# Altium schematic symbol library main.SchLib: 296 symbols (part 1 of 5)
Pins are listed as number, name and electrical type; pins without a type are passive.

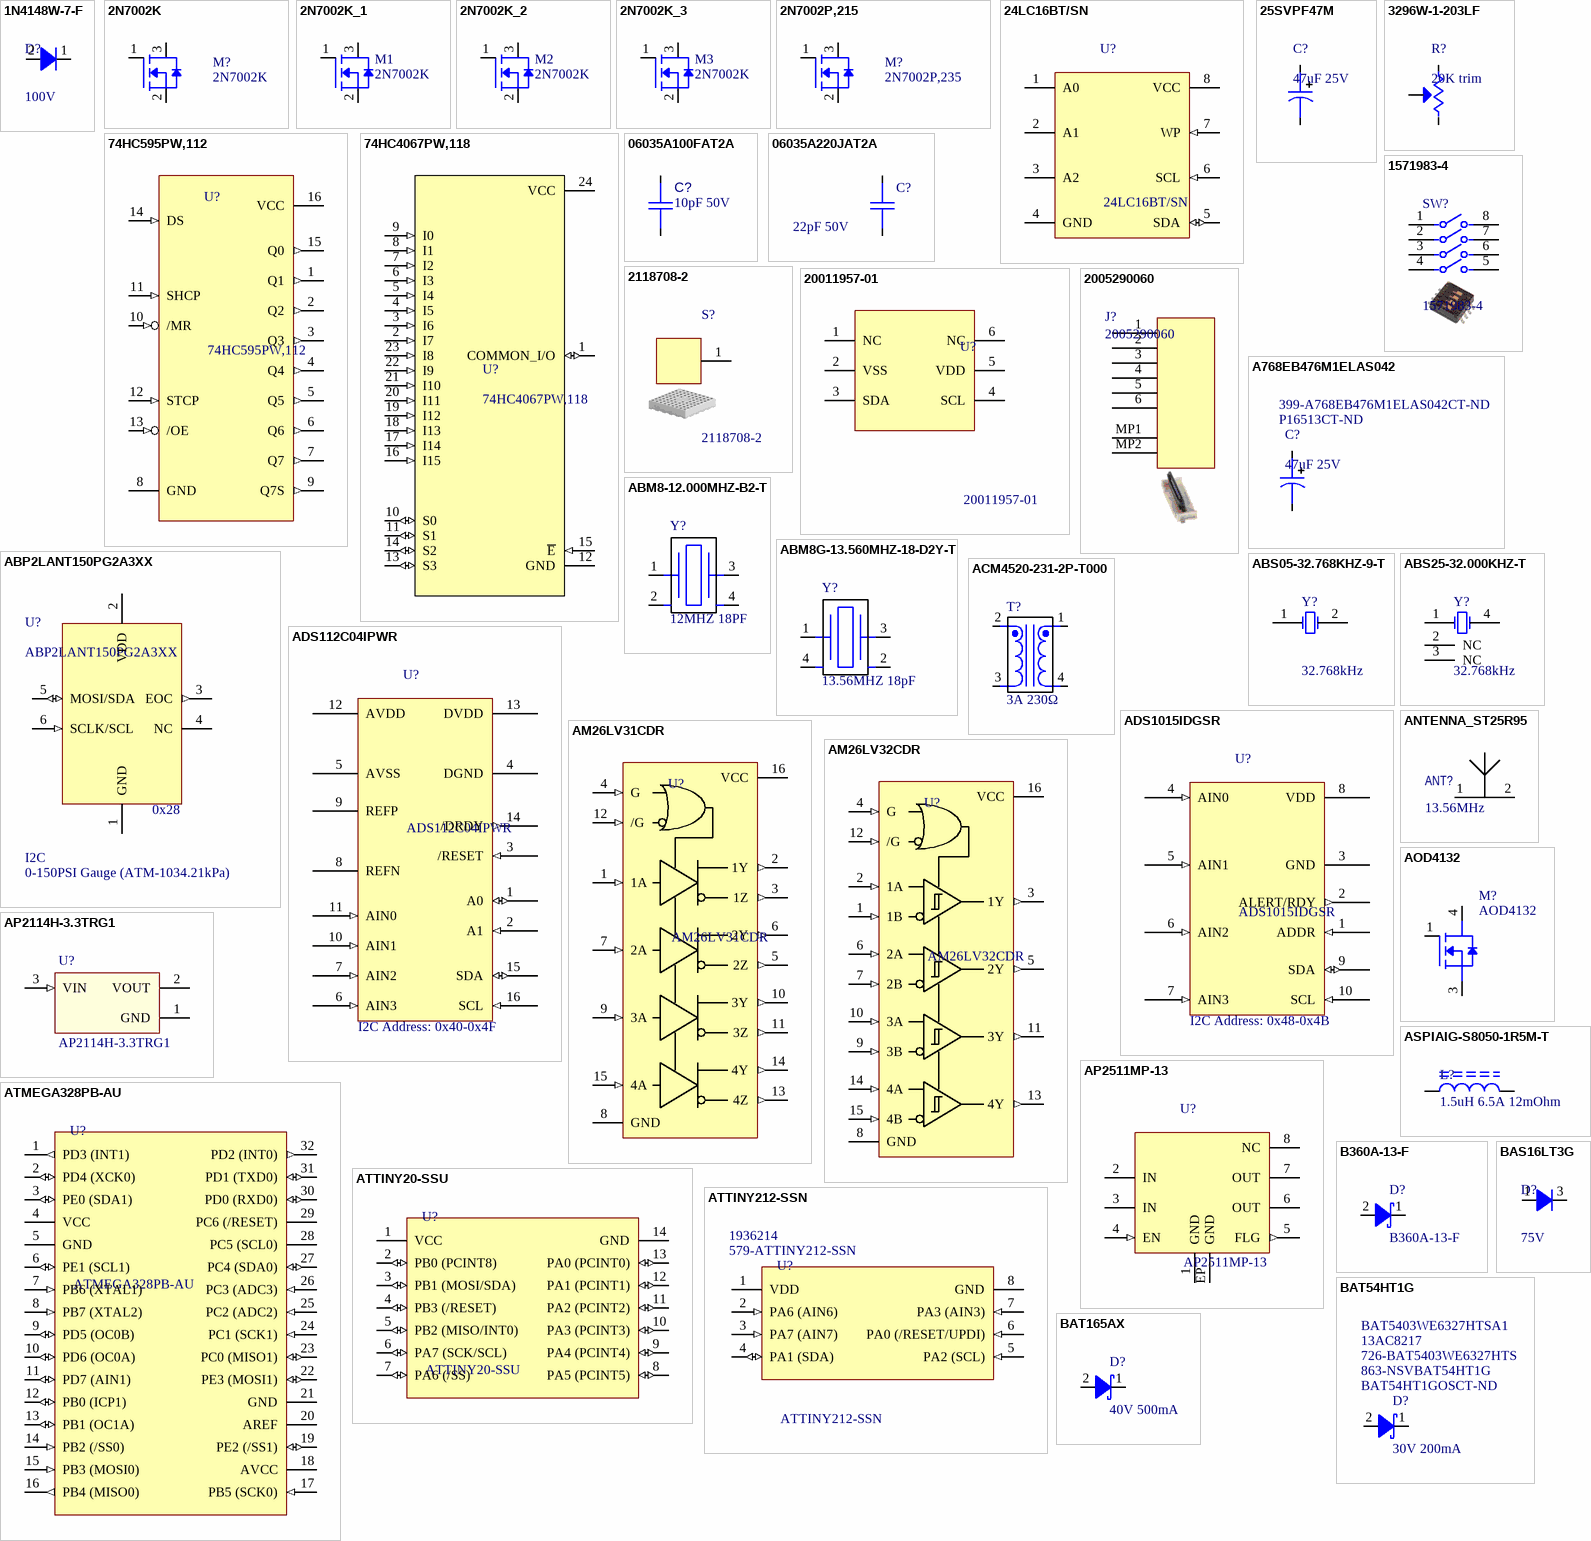
[diagram p0: symbols 1N4148W-7-F to BAT165AX]

## 1N4148W-7-F
designator D?, comment 100V
DIODE 100V 300mA SOD123; Manufacturer: Diodes Incorporated; Manufacturer Part Number: 1N4148W-7-F; Diode Type: Standard; Current - Average Rectified (Io): 300mA (DC); Voltage - Forward (Vf) (Max) @ If: 1.25V @ 150mA; Current - Reverse Leakage @ Vr: 1µA @ 75V; Supplier 1: Digi-Key; Category: Discrete Semiconductor Products; Stock 1: 3190032; Pricing 1: 1=0.18, 10=0.164, 100=0.0891, 500=0.05484, 1000=0.03739 (USD); Mounting Type: Surface Mount; Operating Temperature - Junction: -65°C ~ 150°C; ComponentLink1URL: https://www.diodes.com/assets/Datasheets/ds30086.pdf; ComponentLink1Description: https://www.diodes.com/assets/Datasheets/ds30086.pdf; Supplier Part Number 1: 1N4148W-FDICT-ND
footprint TSSOP50P370X135-2N (Footprint not found)
pins: 1 K, 2 A

## 2N7002K
designator M?
MOSFET SOT-23 N Channel 60V; Manufacturer: NextGen Components; FET Type: N-Channel; Current - Continuous Drain (Id) @ 25°C: 500mA (Ta); Drive Voltage (Max Rds On, Min Rds On): 4.5V, 10V; Rds On (Max) @ Id, Vgs: 900mOhm @ 300mA, 10V; Vgs(th) (Max) @ Id: 2.5V @ 250µA; Gate Charge (Qg) (Max) @ Vgs: 0.31 nC @ 10 V; Vgs (Max): ±20V; Input Capacitance (Ciss) (Max) @ Vds: 23.8 pF @ 10 V; Power Dissipation (Max): 500mW (Ta); Manufacturer Part Number: 2N7002K; ComponentLink1URL: https://assets.nexperia.com/documents/data-sheet/2N7002P.pdf?src-supplier=Digi-Key; ComponentLink1Description: https://assets.nexperia.com/documents/data-sheet/2N7002P.pdf?src-supplier=Digi-Key; Drain to Source Voltage (Vdss): 60V; Operating Temperature: -55°C ~ 150°C; Supplier 1: RSComponents; Supplier Part Number 1: 8051126P; Supplier 2: Arrow Electronics; Supplier Part Number 2: 2N7002K
footprint SOT23 TI# SOT-23 3L (SOT23, 3-Leads, Body 2.92x2.40mm, Pitch 0.95mm, IPC Medium Density)
pins: 1 G, 2 S1, 3 S2

## 2N7002K_1
designator M1, comment 2N7002K
MOSFET SOT-23 N Channel 60V; Manufacturer: NextGen Components; FET Type: N-Channel; Current - Continuous Drain (Id) @ 25°C: 500mA (Ta); Drive Voltage (Max Rds On, Min Rds On): 4.5V, 10V; Rds On (Max) @ Id, Vgs: 900mOhm @ 300mA, 10V; Vgs(th) (Max) @ Id: 2.5V @ 250µA; Gate Charge (Qg) (Max) @ Vgs: 0.31 nC @ 10 V; Vgs (Max): ±20V; Input Capacitance (Ciss) (Max) @ Vds: 23.8 pF @ 10 V; Power Dissipation (Max): 500mW (Ta); Manufacturer Part Number: 2N7002K; ComponentLink1URL: https://assets.nexperia.com/documents/data-sheet/2N7002P.pdf?src-supplier=Digi-Key; ComponentLink1Description: https://assets.nexperia.com/documents/data-sheet/2N7002P.pdf?src-supplier=Digi-Key; Drain to Source Voltage (Vdss): 60V; Operating Temperature: -55°C ~ 150°C; Supplier 1: RSComponents; Supplier Part Number 1: 8051126P; Supplier 2: Arrow Electronics; Supplier Part Number 2: 2N7002K
footprint SOT23 TI# SOT-23 3L (SOT23, 3-Leads, Body 2.92x2.40mm, Pitch 0.95mm, IPC Medium Density)
pins: 1 G, 2 S1, 3 S2

## 2N7002K_2
designator M2, comment 2N7002K
MOSFET SOT-23 N Channel 60V; Manufacturer: NextGen Components; FET Type: N-Channel; Current - Continuous Drain (Id) @ 25°C: 500mA (Ta); Drive Voltage (Max Rds On, Min Rds On): 4.5V, 10V; Rds On (Max) @ Id, Vgs: 900mOhm @ 300mA, 10V; Vgs(th) (Max) @ Id: 2.5V @ 250µA; Gate Charge (Qg) (Max) @ Vgs: 0.31 nC @ 10 V; Vgs (Max): ±20V; Input Capacitance (Ciss) (Max) @ Vds: 23.8 pF @ 10 V; Power Dissipation (Max): 500mW (Ta); Manufacturer Part Number: 2N7002K; ComponentLink1URL: https://assets.nexperia.com/documents/data-sheet/2N7002P.pdf?src-supplier=Digi-Key; ComponentLink1Description: https://assets.nexperia.com/documents/data-sheet/2N7002P.pdf?src-supplier=Digi-Key; Drain to Source Voltage (Vdss): 60V; Operating Temperature: -55°C ~ 150°C; Supplier 1: RSComponents; Supplier Part Number 1: 8051126P; Supplier 2: Arrow Electronics; Supplier Part Number 2: 2N7002K
footprint SOT23 TI# SOT-23 3L (SOT23, 3-Leads, Body 2.92x2.40mm, Pitch 0.95mm, IPC Medium Density)
pins: 1 G, 2 S1, 3 S2

## 2N7002K_3
designator M3, comment 2N7002K
MOSFET SOT-23 N Channel 60V; Manufacturer: NextGen Components; FET Type: N-Channel; Current - Continuous Drain (Id) @ 25°C: 500mA (Ta); Drive Voltage (Max Rds On, Min Rds On): 4.5V, 10V; Rds On (Max) @ Id, Vgs: 900mOhm @ 300mA, 10V; Vgs(th) (Max) @ Id: 2.5V @ 250µA; Gate Charge (Qg) (Max) @ Vgs: 0.31 nC @ 10 V; Vgs (Max): ±20V; Input Capacitance (Ciss) (Max) @ Vds: 23.8 pF @ 10 V; Power Dissipation (Max): 500mW (Ta); Manufacturer Part Number: 2N7002K; ComponentLink1URL: https://assets.nexperia.com/documents/data-sheet/2N7002P.pdf?src-supplier=Digi-Key; ComponentLink1Description: https://assets.nexperia.com/documents/data-sheet/2N7002P.pdf?src-supplier=Digi-Key; Drain to Source Voltage (Vdss): 60V; Operating Temperature: -55°C ~ 150°C; Supplier 1: RSComponents; Supplier Part Number 1: 8051126P; Supplier 2: Arrow Electronics; Supplier Part Number 2: 2N7002K
footprint SOT23 TI# SOT-23 3L (SOT23, 3-Leads, Body 2.92x2.40mm, Pitch 0.95mm, IPC Medium Density)
pins: 1 G, 2 S1, 3 S2

## 2N7002P,215
designator M?, comment 2N7002P,235
MOSFET N-CH 60V 0.36A SOT-23; Manufacturer: Nexperia; Manufacturer Part Number: 2N7002P,235; Pricing 1: 1=0.17000, 10=0.15100, 25=0.14360, 100=0.06330, 250=0.06072, 500=0.04968, 1000=0.03450, 2500=0.03013, 5000=0.02703 (USD); ComponentLink1URL: https://assets.nexperia.com/documents/data-sheet/2N7002P.pdf?src-supplier=Digi-Key; ComponentLink1Description: https://assets.nexperia.com/documents/data-sheet/2N7002P.pdf?src-supplier=Digi-Key; Stock 1: 133,531; Supplier 1: Digi-Key; Supplier Part Number 1: 1727-1865-1-ND; Supplier 2: Avnet; Supplier Part Number 2: 2N7002P,235; Supplier 3: Future Electronics; Supplier Part Number 3: 4044867
footprint SOT23 TI# SOT-23 3L (SOT23, 3-Leads, Body 2.92x2.40mm, Pitch 0.95mm, IPC Medium Density)
pins: 1 G, 2 S1, 3 S2

## 24LC16BT/SN
designator U?
IC EEPROM 16KBIT I2C 8SOIC; Manufacturer: Microchip; Manufacturer Part Number: M24C16-WMN6TP; Supply Voltage: 2.5V ~ 5.5V; Memory Size: 16Kb (2K x 8); Type: EEPROM; Data Interface: I2C; ComponentLink1Description: Link; ComponentLink1URL: https://www.digikey.com/en/products/detail/maxim-integrated/MAX11613EUA-T/2062201; Supplier 1: Digi-Key; Supplier Part Number 1: 24LC16BT/SNCT-ND; Supplier 2: Mouser; Supplier Part Number 2: 579-24LC16BT/SN
footprint SOIC-8 3.9mm Width
pins: 1 A0, 2 A1, 3 A2, 4 GND, 5 SDA (io), 6 SCL (in), 7 WP (in), 8 VCC (power)

## 25SVPF47M
designator C?, comment 47uF 25V
CAP ALUM POLY 47UF 20% 25V SMD; Manufacturer: Panasonic; Manufacturer Part Number: 25SVPF47M; Leakage Current: 235uA; Dissipation Factor: 12%; ESR (Equivalent Series Resistance): 30mR; Supplier 1: Digi-Key; Category: Aluminum Electrolytic Capacitors; Stock 1: 7000; Pricing 1: 1=1.29000, 10=1.02200, 100=0.76620, 500=0.57888 (USD); Case/Package: Radial; Min Operating Temperature: -55°C; Max Operating Temperature: 105°C; Voltage: 25V; Capacitance: 47uF; Tolerance: 20%; Voltage Rating: 25V; Diameter: 6.3mm; Height: 5.9mm; ComponentLink1URL: https://datasheet.ciiva.com/22746/1734360-22746218.pdf?src-supplier=Element14; ComponentLink1Description: https://datasheet.ciiva.com/22746/1734360-22746218.pdf?src-supplier=Element14; Supplier Part Number 1: P16513CT-ND
footprint CAPAE6666X60N (Aluminum Electrolytic Capacitor, Body 7.30x6.60x6.00mm, IPC Medium Density)
pins: 1, 2

## 74HC595PW,112
designator U?
IC 8BIT SHIFT REGISTER 16TSSOP; Manufacturer: NXP; Supply Voltage: 2V ~ 6V; Output Type: Tri-State; Function: Serial to Parallel; ComponentLink1Description: Link; ComponentLink1URL: https://www.digikey.com/en/products/detail/maxim-integrated/MAX11613EUA-T/2062201; Manufacturer Part Number: 74HC595PW,112; Logic Type: Shift Register; Supplier 1: Digi-Key; Supplier Part Number 1: 1727-6439-ND; Supplier 2: Future Electronics; Supplier Part Number 2: 4452017; Supplier 3: Mouser; Supplier Part Number 3: 771-74HC595PW-T
footprint TSSOP-16, 4.4mm body width, pitch 0.65mm (TSOP, 16-Leads, Body 4.40mm width, Pitch 0.65mm)
pins: 1 Q1 (out), 2 Q2 (out), 3 Q3 (out), 4 Q4 (out), 5 Q5 (out), 6 Q6 (out), 7 Q7 (out), 8 GND (power), 9 Q7S (out), 10 /MR (in), 11 SHCP (in), 12 STCP (in), 13 /OE (in), 14 DS (in), 15 Q0 (out), 16 VCC (power)

## 74HC4067PW,118
designator U?
IC MUX/DEMUX 1X16 24TSSOP; Manufacturer: Nexperia; Manufacturer Part Number: 74HC4067PW,118; Supplier 1: Digi-Key; Supplier Part Number 1: 1727-2042-6-ND
footprint TSSOP24 (24 leads;  body width 4.4 mm)
pins: 1 COMMON_I/O (io), 2 I7 (in), 3 I6 (in), 4 I5 (in), 5 I4 (in), 6 I3 (in), 7 I2 (in), 8 I1 (in), 9 I0 (in), 10 S0 (io), 11 S1 (io), 12 GND (power), 13 S3 (io), 14 S2 (io), 15 ~{E} (in), 16 I15 (in), 17 I14 (in), 18 I13 (in), 19 I12 (in), 20 I11 (in), 21 I10 (in), 22 I9 (in), 23 I8 (in), 24 VCC (power)

## 3296W-1-203LF
designator R?, comment 20K trim
RES TRIM 20K 1/2W TH; Manufacturer: Bourns; Manufacturer Part Number: 3296W-1-203LF; Tolerance: 10%; Resistance: 20kR; Power Rating: 500mW; Number of Turns: 25; Temperature Coefficient: 100ppm/°C; Supplier 1: Digi-Key; Category: Variable Resistors and Potentiometers; Stock 1: 3520; Pricing 1: 1=2.41000, 10=2.11700, 25=1.89800, 50=1.82500, 100=1.75200, 250=1.67900, 500=1.38700, 1000=1.31400, 5000=1.09500 (USD); Min Operating Temperature: -55°C; Max Operating Temperature: 125°C; Max Power Dissipation: 500mW; Height: 0.395inch; ComponentLink1URL: https://datasheet.ciiva.com/11832/0900766b8069ccf4-11832240.pdf?src-supplier=RSComponents; ComponentLink1Description: https://datasheet.ciiva.com/11832/0900766b8069ccf4-11832240.pdf?src-supplier=RSComponents; Supplier Part Number 1: 3296W-203LF-ND
footprint TRIM_3296W-1-254LF
pins: 1 CCW, 2 WIPER, 3 CW

## 06035A100FAT2A
designator C?, comment 10pF 50V
CAP CER 10PF 50V C0G/NP0 0603; Manufacturer: AVX; Manufacturer Part Number: 06035A100FAT2A; Tolerance: 1%; Temperature Coefficient: C0G; Supplier 1: Digi-Key; Category: Ceramic Capacitors; Stock 1: 366,260; Case/Package: 0603; Min Operating Temperature: -55°C; Max Operating Temperature: 125°C; Capacitance: 10pF; Voltage Rating (DC): 50V; Voltage Rating: 50V; Supplier Part Number 1: 478-10285-1-ND
footprint CAPC1608X09N (Chip Capacitor, 2-Leads, Body 1.60x0.80mm, IPC Medium Density)
pins: 1, 2

## 06035A220JAT2A
designator C?, comment 22pF 50V
CAP CER 22PF 50V C0G/NP0 0603; Manufacturer: AVX; Manufacturer Part Number: 06035A220JAT2A; Tolerance: 5%; Temperature Coefficient: C0G; Category: Ceramic Capacitors; Stock 1: 802526; Case/Package: 0603; Min Operating Temperature: -55°C; Max Operating Temperature: 125°C; Capacitance: 22pF; Voltage Rating: 50V; Load: *; Supplier 1: Digi-Key; Supplier Part Number 1: 478-1167-1-ND
footprint CAPC1608X09N (Chip Capacitor, 2-Leads, Body 1.60x0.80mm, IPC Medium Density)
pins: 1, 2

## 1571983-4
designator SW?
SWITCH DIP 4-pos SPST 24V 0.1" SMT; Manufacturer: TE Connectivity; Number of Positions: 4; Voltage Rating (DC): 50V; Max Current Rating: 25mA; Switching Capacity: 400mW; Pitch: 1.27mm; Washable: Yes; Supplier 1: Digi-Key; Manufacturer Part Number: 1571983-4; Category: DIP Switches; Stock 1: 7957; Pricing 1: 1=1.74000, 10=1.69000, 25=1.53720, 100=1.33550, 250=1.21024, 500=1.12680, 1000=1.04333, 2500=0.94595, 5000=0.87639 (USD); Min Operating Temperature: -30°C; Max Operating Temperature: 85°C; Throw Configuration: SPST; Max Voltage Rating (DC): 24V; Orientation: Straight; Type: Switch; Height: 7.31mm; Terminal Pitch: 1.27mm; ComponentLink1URL: https://datasheet.ciiva.com/25629/0900766b8107b515-25629567.pdf?src-supplier=RSComponents; ComponentLink1Description: https://datasheet.ciiva.com/25629/0900766b8107b515-25629567.pdf?src-supplier=RSComponents; Supplier Part Number 1: 450-1353-ND
footprint FP-1571983-4-MFG
pins: 1, 2, 3, 4, 5, 6, 7, 8

## 2118708-2
designator S?
RF SHIELD 1.032"X1.032" SMD 1PC; Manufacturer: Tyco; RF Shield: RF Shields; Manufacturer Part Number: 2118708-2; Supplier 1: Digi-Key; Supplier 2: Mouser; Supplier Part Number 1: A126142CT-ND; Supplier Part Number 2: 571-2118708-2
footprint 2118708-2
pins: 1

## 20011957-01
designator U?
TSYS03 TEMP SENSOR XDFN6 1.5X1.5; Manufacturer: TE Connectivity; Interface: I2C; Manufacturer Part Number: 20011957-01; Supplier 1: Digi-Key; Supplier Part Number 1: 223-20011957-01-ND
footprint 6-XDFN (6-XDFN (1.5 x 1.5))
pins: 1 NC, 2 VSS, 3 SDA, 4 SCL, 5 VDD, 6 NC

## 2005290060
designator J?
1.0 FPC ZIF BTM CONT EMBT PKG 6C; Manufacturer: Molex; Number of Positions: 6; Pitch: 1mm; Contacts: Bottom; Manufacturer Part Number: 2005290060; Category: Headers and Wire Housings; Number of Rows: 1; Supplier 1: Digi-Key; Supplier Part Number 1: WM20763CT-ND
footprint 2005290060
pins: 1, 2, 3, 4, 5, 6, MP1, MP2

## A768EB476M1ELAS042
designator C?, comment 47uF 25V  Supplier Part Number 1: P16513CT-ND  Supplier Part Number 2: 399-A768EB476M1ELAS042CT-ND
CAP ALUM POLY 47UF 20% 25V SMD; Manufacturer: Panasonic; Manufacturer Part Number: 25SVPF47M; Leakage Current: 235uA; Dissipation Factor: 12%; ESR (Equivalent Series Resistance): 30mR; Category: Aluminum Electrolytic Capacitors; Stock 1: 7000; Pricing 1: 1=1.29000, 10=1.02200, 100=0.76620, 500=0.57888 (USD); Case/Package: Radial; Min Operating Temperature: -55°C; Max Operating Temperature: 105°C; Voltage: 25V; Capacitance: 47uF; Tolerance: 20%; Voltage Rating: 25V; Diameter: 6.3mm; Height: 5.9mm; ComponentLink1URL: https://datasheet.ciiva.com/22746/1734360-22746218.pdf?src-supplier=Element14; ComponentLink1Description: https://datasheet.ciiva.com/22746/1734360-22746218.pdf?src-supplier=Element14; Supplier 1: Digi-Key; Supplier 2: Digi-Key
footprint CAPAE6666X60N (Aluminum Electrolytic Capacitor, Body 7.30x6.60x6.00mm, IPC Medium Density)
pins: 1, 2

## ABM8-12.000MHZ-B2-T
designator Y?, comment 12MHZ 18PF
CRYSTAL 12.0000MHZ 18PF SMD; Manufacturer: Abracon; Manufacturer Part Number: ABM8-12.000MHZ-B2-T; ESR: 120 Ohms; Frequency Stability: ±20ppm; Load Capacitance: 18pF; Operating Temperature: -20°C ~ 75°C; Frequency: 12MHz; Supplier 1: Newark; Supplier 2: Mouser; Supplier 3: Digi-Key; Supplier Part Number 1: 78AH9116; Supplier Part Number 2: 815-ABM8-12-B2-T; Supplier Part Number 3: 535-9826-1-ND
footprint 3.2mmx2.5mm Crystal
pins: 1, 2 NC, 3, 4 NC

## ABM8G-13.560MHZ-18-D2Y-T
designator Y?, comment 13.56MHZ 18pF
CRYSTAL 13.5600MHZ 18PF SMD; Manufacturer: Abracon; Manufacturer Part Number: ABM8G-13.560MHZ-18-D2Y-T; ESR: 80 Ohms; Frequency Stability: ±30ppm; Frequency Tolerance: ±20ppm; Load Capacitance: 18pF; Operating Temperature: -40°C ~ 85°C; Frequency: 13.56MHz; Supplier 1: Digi-Key; Supplier Part Number 1: 535-10264-1-ND
footprint 3.2mmx2.5mm Crystal
pins: 1, 2 NC, 3, 4 NC

## ABP2LANT150PG2A3XX
designator U?  Pressure Range: 0-150PSI Gauge (ATM-1034.21kPa)  Interface: I2C  Address: 0x28
ABP2, LEADLESS SMT PACKAGE, SING; Manufacturer: Honeywell; Max Pressure: 250PSI; Supply Voltage: 1.8~3.6V; Manufacturer Part Number: ABP2LANT150PG2A3XX; Supplier 1: Newark; Supplier Part Number 1: 76AH8157; Supplier 2: DigiKey; Supplier Part Number 2: 480-ABP2LANT150PG2A3XX-ND; Supplier 3: Mouser; Supplier Part Number 3: 785-P2LANT150PG2A3XX; Supplier 4: Arrow Electronics; Supplier Part Number 4: ABP2LANT150PG2A3XX; Supplier 5: Newark; Supplier Part Number 5: 76AH8157; Supplier 6: DigiKey; Supplier Part Number 6: 480-ABP2LANT150PG2A3XX-ND; Supplier 7: Mouser; Supplier Part Number 7: 785-P2LANT150PG2A3XX; Supplier 8: Arrow Electronics; Supplier Part Number 8: ABP2LANT150PG2A3XX; Supplier 9: Newark; Supplier Part Number 9: 76AH8157; Supplier 10: DigiKey; Supplier Part Number 10: 480-ABP2LANT150PG2A3XX-ND; Supplier 11: Mouser; Supplier Part Number 11: 785-P2LANT150PG2A3XX; Supplier 12: Arrow Electronics; Supplier Part Number 12: ABP2LANT150PG2A3XX; Supplier 13: Newark; Supplier Part Number 13: 76AH8157; Supplier 14: DigiKey; Supplier Part Number 14: 480-ABP2LANT150PG2A3XX-ND; Supplier 15: Mouser; Supplier Part Number 15: 785-P2LANT150PG2A3XX; Supplier 16: Arrow Electronics; Supplier Part Number 16: ABP2LANT150PG2A3XX
footprint ABP2LANT150PG2A3XX
pins: 1 GND, 2 VDD, 3 EOC (out), 4 NC, 5 MOSI/SDA (io), 6 SCLK/SCL (in)

## ABS05-32.768KHZ-9-T
designator Y?, comment 32.768kHz
CRYSTAL 32.7680KHZ 9PF SMD; Manufacturer: Abracon Corporation; Manufacturer Part Number: ABS05-32.768KHZ-9-T; Frequency Tolerance: ±20ppm; Load Capacitance: 12.5pF; ESR (Equivalent Series Resistance): 50 kOhm; Operating Mode: Fundamental; Open Source: Yes; Category: Crystals and Oscillators; Stock 1: 94605; Pricing 1: 1=0.71, 10=0.624, 50=0.54, 100=0.432, 500=0.36 (USD); Type: kHz Crystal (Tuning Fork); Frequency: 32.768kHz; Frequency Stability: -; Operating Temperature: -40°C ~ 85°C; Mounting Type: Surface Mount; Height: 0.098" (2.50mm); ComponentLink1URL: http://www.abracon.com/Resonators/abs25.pdf; ComponentLink1Description: http://www.abracon.com/Resonators/abs25.pdf; Supplier 1: Digi-Key; Supplier Part Number 1: 535-11897-1-ND; Supplier 2: Newark; Supplier Part Number 2: 40Y2049; Supplier 3: Digi-Key; Supplier Part Number 3: 535-ABS05-32.768KHZ-9-TCT-ND; Supplier 4: Mouser; Supplier Part Number 4: 815-ABS05-32.768K9T
footprint ABS05-32.768KHZ-9-T
pins: 1 OSC1, 2 OSC

## ABS25-32.000KHZ-T
designator Y?, comment 32.768kHz
CRYSTAL 32.768KHZ 12.5PF SMD; Manufacturer: Abracon Corporation; Manufacturer Part Number: ABS25-32.768KHZ-T; Frequency Tolerance: ±20ppm; ESR (Equivalent Series Resistance): 50 kOhm; Operating Mode: Fundamental; Open Source: Yes; Category: Crystals and Oscillators; Stock 1: 94605; Pricing 1: 1=0.71, 10=0.624, 50=0.54, 100=0.432, 500=0.36 (USD); Type: kHz Crystal (Tuning Fork); Frequency: 32.768kHz; Frequency Stability: -; Load Capacitance: 12.5pF; Operating Temperature: -40°C ~ 85°C; Mounting Type: Surface Mount; Height: 0.098" (2.50mm); ComponentLink1URL: http://www.abracon.com/Resonators/abs25.pdf; ComponentLink1Description: http://www.abracon.com/Resonators/abs25.pdf; Supplier 1: Digi-Key; Supplier Part Number 1: 535-9166-1-ND; Supplier 2: Digi-Key; Supplier Part Number 2: 535-10242-1-ND; Supplier 3: Mouser; Supplier Part Number 3: 815-ABS25-32KT
footprint SOICJ127P600-8N (Footprint not found)
pins: 1 OSC1, 2 NC, 3 NC, 4 OSC

## ACM4520-231-2P-T000
designator T?, comment 3A 230Ω
CHOKE CMC 3A 2LN 230 OHM SMD; Manufacturer: TDK Corporation; Manufacturer Part Number: ACM4520-231-2P-T000; Number of Lines: 2; Impedance: 230 Ohms @ 100 MHz; Shielding: Unshielded; Resistance: 120R; Test Frequency: 100MHz; Voltage Rating (DC): 50V; ComponentLink1URL: https://www.bourns.com/docs/Product-Datasheets/SRF2012A.pdf?src-supplier=Digi-Key; ComponentLink1Description: https://www.bourns.com/docs/Product-Datasheets/SRF2012A.pdf?src-supplier=Digi-Key; Min Operating Temperature: -40°C; Max Operating Temperature: 85°C; Current: 3A; Height: 2mm; Supplier 1: Digi-Key; Supplier 2: Mouser; Supplier Part Number 1: 445-8643-1-ND; Supplier Part Number 2: 810-ACM45202312PT000
footprint ACM4520-231-2P-T000 (4.7mmx4.5mm)
pins: 1, 2, 3, 4

## ADS112C04IPWR
designator U?  I2C Address: I2C Address: 0x40-0x4F
IC ADC 16BIT SIGMA-DELTA 16TSSOP; Manufacturer: Texas Instruments; Number of Bits: 16; Sample Rate: 2k; Number of Inputs: 4; Data Interface: I2C; Supply Voltage: 2.3V ~ 5.5V; Stock 1: 372; Case/Package: TSSOP-16; ComponentLink1Description: Link; ComponentLink1URL: https://www.digikey.com/en/products/detail/maxim-integrated/MAX11613EUA-T/2062201; Supplier 1: Digi-Key; Supplier Part Number 1: 296-50875-1-ND; Manufacturer Part Number: ADS112C04IPWR
footprint TSSOP-16, 4.4mm body width, pitch 0.65mm (TSOP, 16-Leads, Body 4.40mm width, Pitch 0.65mm)
pins: 1 A0 (io), 2 A1 (in), 3 /RESET (in), 4 DGND (power), 5 AVSS (power), 6 AIN3 (in), 7 AIN2 (in), 8 REFN (power), 9 REFP (power), 10 AIN1 (in), 11 AIN0 (in), 12 AVDD (power), 13 DVDD (power), 14 /DRDY (out), 15 SDA (io), 16 SCL (in)

## ADS1015IDGSR
designator U?  I2C Address: I2C Address: 0x48-0x4B
IC ADC 12BIT SIGMA-DELTA 10VSSOP; Manufacturer: Texas Instruments; Number of Bits: 12; Sample Rate: 3.3k; Number of Inputs: 2, 4; Data Interface: I2C; Supply Voltage: 2V ~ 5.5V; Stock 1: 16657; Case/Package: TSSOP-10; ComponentLink1Description: Link; ComponentLink1URL: https://www.digikey.com/en/products/detail/maxim-integrated/MAX11613EUA-T/2062201; Supplier 1: Digi-Key; Manufacturer Part Number: ADS1015IDGSR; Supplier Part Number 1: 296-41185-1-ND
footprint VSSOP-10, 4.4mm body width, pitch 0.5mm
pins: 1 ADDR (in), 2 ALERT/RDY (out), 3 GND (power), 4 AIN0 (in), 5 AIN1 (in), 6 AIN2 (in), 7 AIN3 (in), 8 VDD (power), 9 SDA (io), 10 SCL (in)

## AM26LV31CDR
designator U?
IC DRIVER 4/0 16SOIC; Manufacturer: Texas Instruments; Supply Voltage: 3V ~ 3.6V; Protocols: RS422, RS485; ComponentLink1Description: Link; ComponentLink1URL: https://www.digikey.com/en/products/detail/maxim-integrated/MAX11613EUA-T/2062201; Manufacturer Part Number: AM26LV31CDR; Drivers/Receivers: 4/0; Type: Driver; Supplier 1: Mouser; Supplier Part Number 1: 595-AM26LV31CDG4; Supplier 2: Digi-Key; Supplier Part Number 2: 296-25912-1-ND; Supplier 3: Digi-Key; Supplier Part Number 3: 296-6793-5-ND; Supplier 4: Mouser; Supplier Part Number 4: 595-AM26LV31CD
footprint SOIC-16 3.9mm Width
pins: 1 1A (in), 2 1Y (out), 3 1Z (out), 4 G (in), 5 2Z (out), 6 2Y (out), 7 2A (in), 8 GND (power), 9 3A (in), 10 3Y (out), 11 3Z (out), 12 /G (in), 13 4Z (out), 14 4Y (out), 15 4A (in), 16 VCC (power)

## AM26LV32CDR
designator U?
IC RECEIVER 0/4 16SOIC; Manufacturer: Texas Instruments; Supply Voltage: 3V ~ 3.6V; Protocols: RS422, RS485; ComponentLink1Description: Link; ComponentLink1URL: https://www.digikey.com/en/products/detail/maxim-integrated/MAX11613EUA-T/2062201; Manufacturer Part Number: AM26LV32CDR; Drivers/Receivers: 0/4; Type: Driver; Supplier 1: Digi-Key; Supplier Part Number 1: 296-1376-5-ND; Supplier 2: Digi-Key; Supplier Part Number 2: 296-6794-1-ND; Supplier 3: Mouser; Supplier Part Number 3: 595-AM26LV32CDR
footprint SOIC-16 3.9mm Width
pins: 1 1B (in), 2 1A (in), 3 1Y (out), 4 G (in), 5 2Y (out), 6 2A (in), 7 2B (in), 8 GND (power), 9 3B (in), 10 3A (in), 11 3Y (out), 12 /G (in), 13 4Y (out), 14 4A (in), 15 4B (in), 16 VCC (power)

## ANTENNA_ST25R95
designator ANT?, comment 13.56MHz
ST25R95 13.56MHz ANTENNA 47mm x 34mm; Manufacturer: Custom; Manufacturer Part Number: NA
footprint ANTENNA_ST25R95
pins: 1, 2

## AOD4132
designator M?
MOSFET N-CH 30V 85A TO252; Manufacturer: Alpha & Omega; Gate to Source Voltage (Vgs): 20V; Rds On Max: 4mOhm @ 20A, 10V; Power Dissipation (Max): 61W; Input Capacitance: 4400 pF @ 15 V; Gate Charge: 76nC @ 10 V; SOA DC: 250mA @ 12VDS; SOA 1ms: 30A @ 12VDS; Manufacturer Part Number: AOD4132; Min Operating Temperature: -55°C; Max Operating Temperature: 175°C; Type: N-Channel; Current - Continuous Drain (Id) @ 25°C: 85A; Drain to Source Breakdown Voltage: 30V; ComponentLink1URL: https://datasheet.ciiva.com/13063/csd18531q5a-108247-13063440.pdf; ComponentLink1Description: https://datasheet.ciiva.com/13063/csd18531q5a-108247-13063440.pdf; Supplier 1: Digi-Key; Supplier Part Number 1: 785-1217-1-ND
footprint DPAK (TO-252-3)
pins: 1 G, 3 S3, 4 D8

## AP2114H-3.3TRG1
designator U?
IC REG LDO 3.3V fixed 1A, SOT-223; Manufacturer: Diodes; Number of Regulators: 1; Quiescent Current: 65uA; Accuracy: 1.5%; Min Input Voltage: 2.5V; Max Input Voltage: 6V; Dropout Voltage: 450mV; Power Supply Rejection Ratio (PSRR): 65dB; Supplier 1: Digi-Key; Manufacturer Part Number: AP2114H-3.3TRG1; Category: Voltage Regulators - Linear; Stock 1: 75513; Pricing 1: 1=0.35000, 10=0.28700, 25=0.26280, 100=0.17720, 250=0.14668, 500=0.13444, 1000=0.10083 (USD); Case/Package: SOT-223; Min Operating Temperature: -40°C; Max Operating Temperature: 85°C; Max Output Current: 1A; Output Current: 1A; Number of Outputs: 1; Output Voltage: 3.3V; Output Type: Fixed; Height: 1.7mm; ComponentLink1URL: https://datasheet.ciiva.com/29569/ap2114-29569881.pdf?src-supplier=Digi-Key; ComponentLink1Description: https://datasheet.ciiva.com/29569/ap2114-29569881.pdf?src-supplier=Digi-Key; Supplier Part Number 1: AP2114H-3.3TRG1DICT-ND
footprint SOT223_SOT230P700X180-4N (SOT223, 4-Leads, Body 6.50x7.00mm (avg), Pitch 2.30mm, IPC Medium Density)
pins: 1 GND (power), 2 VOUT (power), 3 VIN (in)

## AP2511MP-13
designator U?
IC PWR SWITCH P-CHAN 1:1 8MSOP; Manufacturer: Diodes Incorporated; Voltage - Load: 2.7V ~ 5.5V; Current - Output: 2.5A; Manufacturer Part Number: AP2511MP-13; Category: Load Switch; Operating Temperature: -40°C ~ 85°C (TJ); Supplier 1: Digi-Key; Supplier Part Number 1: AP2511MP-13DICT-ND; Supplier 2: Newark; Supplier Part Number 2: 76AH4693
footprint MSOP-8 EP 3mm
pins: 1 GND (power), 2 IN (power), 3 IN, 4 EN (in), 5 FLG (out), 6 OUT (power), 7 OUT, 8 NC (power), EP GND (power)

## ASPIAIG-S8050-1R5M-T
designator L?, comment 1.5uH 6.5A 12mOhm
FIXED IND 1.5UH 6.5A 12 MOHM SMD; Manufacturer: Abracon; Manufacturer Part Number: ASPIAIG-S8050-1R5M-T; Saturation Current: 13A; DC Resistance (DCR): 12mR; Inductance Tolerance: 20%; Shielding: Shielded; Category: Fixed Inductors; Inductance: 1.5uH; RMS Current (Irms): 6.5A; ComponentLink1URL: http://www.farnell.com/datasheets/2113223.pdf?src-supplier=Element14; ComponentLink1Description: http://www.farnell.com/datasheets/2113223.pdf?src-supplier=Element14; Supplier 1: Arrow Electronics; Supplier 2: Mouser; Supplier Part Number 1: ASPIAIG-S8050-1R5M-T; Supplier Part Number 2: 815-ASPIAIGS80501R5T
footprint ASPIAIG-S8050-1R5M-T (8mmx8mm)
pins: 1, 2

## ATMEGA328PB-AU
designator U?
IC MCU 8BIT 32KB FLASH 32TQFP; Manufacturer: Atmel; Core Processor: AVR; Core Size: 8-Bit; Speed: 20MHz; Voltage - Supply: 1.8V ~ 5.5V; Connectivity: I²C, SPI; Program Memory Size: 32KB (16K x 16); RAM Size: 2K x 8; Data Converters: A/D 8x10b; EEPROM Size: 1K x 8; Manufacturer Part Number: ATMEGA328PB-AU; Operating Temperature: -40°C ~ 85°C (TA); Program Memory Type: FLASH; Supplier 1: Newark; Supplier Part Number 1: 58Y6083
footprint TQFP-32 7x7mm, Pitch 0.8mm
pins: 1 PD3 (INT1) (out), 2 PD4 (XCK0) (io), 3 PE0 (SDA1) (io), 4 VCC, 5 GND, 6 PE1 (SCL1) (io), 7 PB6 (XTAL1) (in), 8 PB7 (XTAL2) (in), 9 PD5 (OC0B) (io), 10 PD6 (OC0A) (io), 11 PD7 (AIN1) (io), 12 PB0 (ICP1) (io), 13 PB1 (OC1A) (io), 14 PB2 (/SS0) (in), 15 PB3 (MOSI0) (in), 16 PB4 (MISO0) (out), 17 PB5 (SCK0) (in), 18 AVCC, 19 PE2 (/SS1) (io), 20 AREF, 21 GND, 22 PE3 (MOSI1) (io), 23 PC0 (MISO1) (io), 24 PC1 (SCK1) (in), 25 PC2 (ADC2) (in), 26 PC3 (ADC3) (in), 27 PC4 (SDA0) (io), 28 PC5 (SCL0), 29 PC6 (/RESET), 30 PD0 (RXD0) (io), 31 PD1 (TXD0) (io), 32 PD2 (INT0) (out)

## ATTINY20-SSU
designator U?
IC MCU 8BIT 2KB FLASH 14SOIC; Manufacturer: Atmel; Manufacturer Part Number: ATTINY20-SSUR; Core Processor: AVR; Core Size: 8-Bit; Speed: 12MHz; Voltage - Supply: 1.8V ~ 5.5V; Connectivity: I²C, SPI; Program Memory Size: 2KB (1K x 16); RAM Size: 128 x 8; Data Converters: A/D 8x10b; Operating Temperature: -40°C ~ 105°C (TA); Program Memory Type: FLASH; Supplier 1: Digi-Key; Supplier Part Number 1: ATTINY20-SSU-ND; Supplier 2: Arrow Electronics; Supplier Part Number 2: ATTINY20-SSU; Supplier 3: Newark; Supplier Part Number 3: 95AJ7239
footprint SOIC-14 3.9mm Width
pins: 1 VCC (power), 2 PB0 (PCINT8) (io), 3 PB1 (MOSI/SDA) (io), 4 PB3 (/RESET) (io), 5 PB2 (MISO/INT0) (io), 6 PA7 (SCK/SCL) (io), 7 PA6 (/SS) (io), 8 PA5 (PCINT5) (io), 9 PA4 (PCINT4) (io), 10 PA3 (PCINT3) (io), 11 PA2 (PCINT2) (io), 12 PA1 (PCINT1) (io), 13 PA0 (PCINT0) (io), 14 GND (power)

## ATTINY212-SSN
designator U?  Supplier Part Number 1: 579-ATTINY212-SSN  Supplier Part Number 2: 1936214
IC MCU 105C GREEN 20MHZ SOIC8 T/R; Manufacturer: Atmel; Core Processor: AVR; Core Size: 8-Bit; Voltage - Supply: 1.8V ~ 5.5V; Connectivity: I²C, SPI, USART; Program Memory Size: 2KB (1K x 16); Program Memory Type: FLASH; RAM Size: 128 x 8; Data Converters: A/D 6x8b; Manufacturer Part Number: ATTINY212-SSN; Operating Temperature: -40°C ~ 105°C (TA); Speed: 20MHz; Supplier 1: Mouser; Supplier 2: RSComponents
footprint 8-SOIC (0.154"", 3.90mm Width)
pins: 1 VDD (power), 2 PA6 (AIN6) (in), 3 PA7 (AIN7) (in), 4 PA1 (SDA) (io), 5 PA2 (SCL) (in), 6 PA0 (/RESET/UPDI) (in), 7 PA3 (AIN3) (in), 8 GND (power)

## B360A-13-F
designator D?
DIODE SCHOTTKY 60V 3A SMA; Manufacturer: Diodes Inc; Voltage - Forward (Vf) (Max) @ If: 700mV @ 3A; Current - Reverse Leakage @ Vr: 500µA @ 60V; Manufacturer Part Number: B360A-13-F; Diode Type: Schottky; Stock 1: 346500; Pricing 1: 1=0.40000, 10=0.32400, 25=0.29680, 100=0.18630, 250=0.18424, 500=0.17250, 1000=0.11730, 2500=0.11247 (USD); Current - Average Rectified (Io): 3A; Voltage - DC Reverse (Vr) (Max): 60V; Supplier 1: Digi-Key; Supplier Part Number 1: B360A-FDICT-ND; Supplier 2: RSComponents; Supplier Part Number 2: 7384796P
footprint SMA
pins: 1 K, 2 A

## BAS16LT3G
designator D?, comment 75V
DIODE 75V 200mA SOT23-3; Manufacturer: ON Semiconductor; Manufacturer Part Number: BAS16LT3G; Peak Reverse Current: 1uA; Reverse Recovery Time: 6ns; Element Configuration: Single; Forward Voltage: 1.25V; Max Forward Surge Current (Ifsm): 500mA; Power Dissipation: 300mW; Supplier 1: Digi-Key; Category: Rectifier Diodes; Stock 1: 52769; Pricing 1: 1=0.10000, 10=0.08900, 25=0.08520, 100=0.03740, 250=0.03592, 500=0.02938, 1000=0.02040, 2500=0.01782, 5000=0.01598 (USD); Case/Package: SOT-23-3; Min Operating Temperature: -55°C; Max Operating Temperature: 150°C; Forward Current: 200mA; Max Repetitive Reverse Voltage (Vrrm): 75V; Max Reverse Voltage (DC): 75V; Average Rectified Current: 200mA; Recovery Time: 6ns; Max Reverse Leakage Current: 1uA; Output Current: 200mA; Height: 1.01mm; ComponentLink1URL: https://datasheet.ciiva.com/927/bas16lt1-d-927189.pdf?src-supplier=Avnet; ComponentLink1Description: https://datasheet.ciiva.com/927/bas16lt1-d-927189.pdf?src-supplier=Avnet; Supplier Part Number 1: BAS16LT3GOSCT-ND
footprint SOT23 TI# SOT-23 3L (SOT23, 3-Leads, Body 2.92x2.40mm, Pitch 0.95mm, IPC Medium Density)
pins: 1 A, 3 K

## BAT54HT1G
designator D?, comment 30V 200mA  Supplier Part Number 1: BAT54HT1GOSCT-ND  Supplier Part Number 2: 863-NSVBAT54HT1G  Supplier Part Number 3: 726-BAT5403WE6327HTS  Supplier Part Number 4: 13AC8217  Supplier Part Number 5: BAT5403WE6327HTSA1
DIODE SCHOTTKY 30V 200mA SOD323; Manufacturer: ON Semiconductor / Fairchild; Manufacturer Part Number: BAT54HT1G; Reverse Recovery Time: 5ns; Peak Non-Repetitive Surge Current: 600mA; Forward Voltage: 800mV; Element Configuration: Single; Power Dissipation: 200mW; Peak Reverse Current: 2uA; Capacitance: 10pF; Category: Rectifier Diodes; Stock 1: 418305; Pricing 1: 1=0.20000, 10=0.18100, 25=0.17240, 100=0.07590, 250=0.07288, 500=0.05962, 1000=0.04140 (USD); Min Operating Temperature: -55°C; Max Operating Temperature: 150°C; Average Rectified Current: 200mA; Max Repetitive Reverse Voltage (Vrrm): 30V; Max Forward Surge Current (Ifsm): 600mA; Forward Current: 200mA; Recovery Time: 5ns; Max Reverse Voltage (DC): 30V; Max Surge Current: 600mA; Voltage Rating (DC): 30V; Current Rating: 200mA; Output Current: 200mA; Reverse Voltage: 30V; Max Reverse Leakage Current: 2uA; Height: 1mm; ComponentLink1URL: https://datasheet.ciiva.com/4714/bat54ht1-d-72881-4714706.pdf?src-supplier=Mouser; ComponentLink1Description: https://datasheet.ciiva.com/4714/bat54ht1-d-72881-4714706.pdf?src-supplier=Mouser; Supplier 1: Digi-Key; Supplier 2: Mouser; Supplier 3: Mouser; Supplier 4: Newark; Supplier 5: Arrow Electronics
footprint TSSOP50P250X117-2N (TSSOP, 2-Leads, Body 1.28x1.66mm, Pitch 0.50mm, IPC Medium Density)
pins: 1 K, 2 A

## BAT165AX
designator D?, comment 40V 500mA
DIODE SCHOTTKY 40V 500mA SOD323; Manufacturer: Nexperia; Manufacturer Part Number: BAT165AX; Supplier 1: Digi-Key; Category: Schottky Diodes; Stock 1: 6085; Pricing 1: 1=0.33000, 10=0.26900, 25=0.22520, 100=0.11000, 250=0.10824, 500=0.09176, 1000=0.06375 (USD); Supplier Part Number 1: 1727-2752-1-ND
footprint TSSOP50P250X117-2Nb (BAT165AX - TSSOP, 2-Leads, Body 1.28x1.66mm, Pitch 0.50mm, IPC Medium Density)
pins: 1 K, 2 A

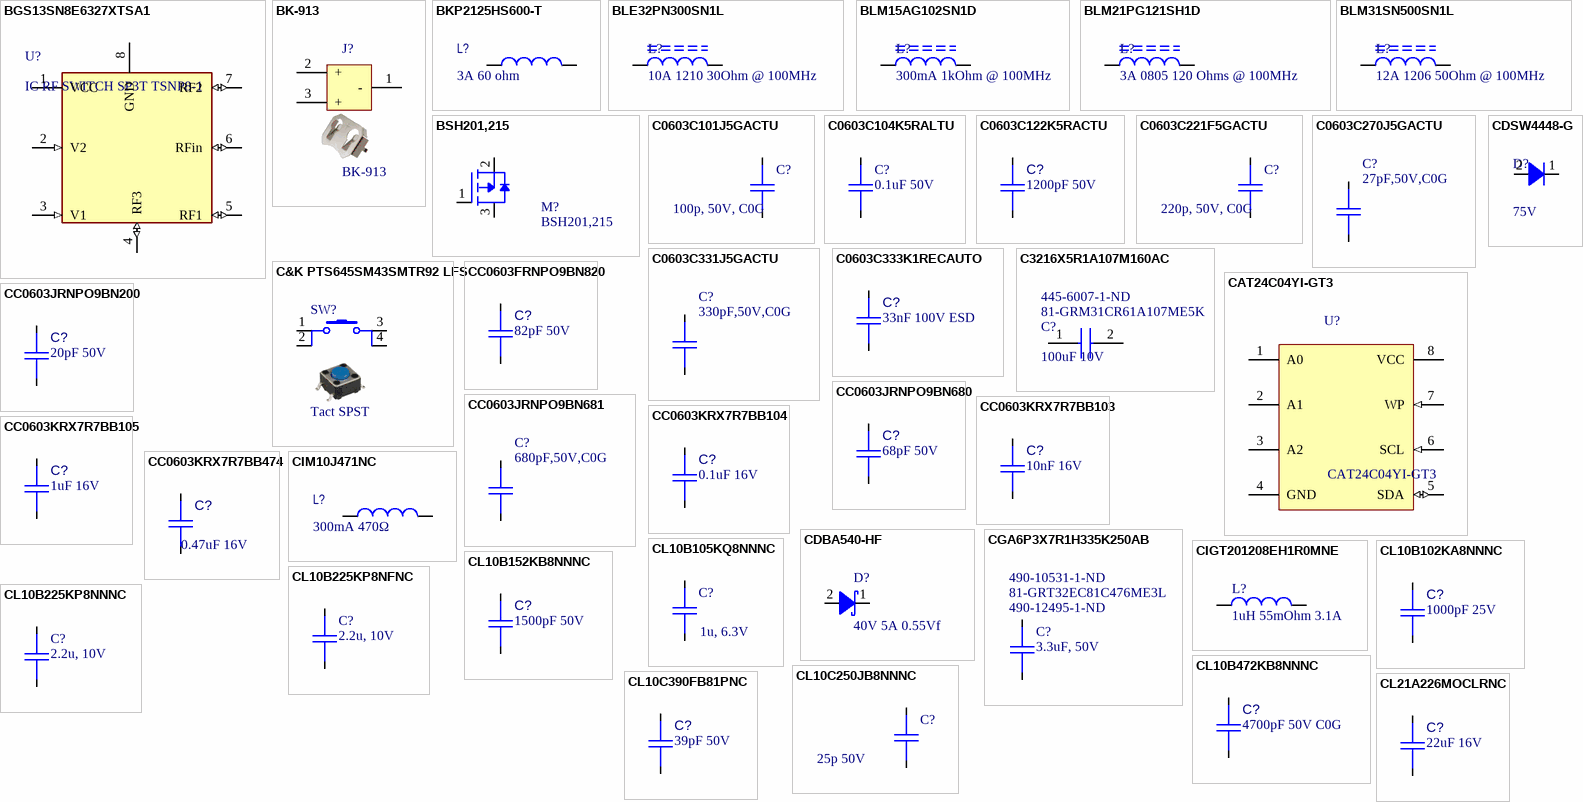
[diagram p1: symbols BGS13SN8E6327XTSA1 to CL21A226MOCLRNC]

## BGS13SN8E6327XTSA1
designator U?, comment IC RF SWITCH SP3T TSNP8-1
IC AMP CLASS DG MONO 3.3W 16TQFN; Manufacturer's Part Number: BGS13SN8E6327XTSA1; Manufacturer: Infineon Technologies; Voltage - Supply: 1.8V - 3.4V; Frequency range: 100MHZ6GHz; Impedance: 50 Ohm; Operating Temperature: -40°C ~ 85°C; Interface: RF Switch; Type: RF/IF and RFID; Supplier 1: Mouser; Supplier Part Number 1: 726-BGS13SN8E6327XTS
footprint VSSOP-8 3.0mm body width, pitch 0.65mm
pins: 1 VCC (power), 2 V2 (in), 3 V1 (in), 4 RF3 (io), 5 RF1 (io), 6 RFin (io), 7 RF2 (io), 8 GND (power)

## BK-913
designator J?
BATTERY RETAINER COIN PC PIN; Manufacturer: MPD (Memory Protection Devices); Battery Type: Coin Cell, Retainer; Battery Series: 2032; Manufacturer Part Number: BK-913; ComponentLink1URL: https://datasheet.ciiva.com/14550/70181561-14550853.pdf; ComponentLink1Description: https://datasheet.ciiva.com/14550/70181561-14550853.pdf; Supplier 1: Digi-Key; Supplier Part Number 1: BK-913-ND
footprint BK-913
pins: 1 -, 2 +, 3 +

## BKP2125HS600-T
designator L?, comment 3A 60 ohm
BEAD 3A 60Ω 0805; Manufacturer: Taiyo Yuden; Manufacturer Part Number: BKP2125HS600-T; Core Material: Ferrite; DC Resistance (DCR): 25mR; Tolerance: 25%; Impedance: 60R; Test Frequency: 100MHz; Number of Lines: 1; Shielding: Unshielded; Supplier 1: Digi-Key; Category: Inductors; Stock 1: 419414; Pricing 1: 1=0.10000, 10=0.07300, 25=0.06640, 50=0.05980, 100=0.04390, 250=0.03196, 500=0.02928, 1000=0.02529 (USD); Case/Package: 0805; Min Operating Temperature: -55°C; Max Operating Temperature: 85°C; Max DC Current: 3A; Max Current Rating: 3A; Resistance: 25mR; Height: 1.05mm; ComponentLink1URL: https://datasheet.ciiva.com/6213/bkp2125hs600-t-ss-6213090.pdf?src-supplier=Digi-Key; ComponentLink1Description: https://datasheet.ciiva.com/6213/bkp2125hs600-t-ss-6213090.pdf?src-supplier=Digi-Key; Supplier Part Number 1: 587-1932-1-ND
footprint Chip2PinSM127P600-8N
pins: 1, 2

## BLE32PN300SN1L
designator L?, comment 10A 1210 30Ohm @ 100MHz
FERRITE BEAD 30 OHM 1210 1LN; Manufacturer: Murata; Manufacturer Part Number: BLE32PN300SN1L; DC Resistance (DCR): 1.6mOhm; Impedance @ Frequency: 30 Ohms @ 100MHz; Min Operating Temperature: -55°C; Max Operating Temperature: 125°C; Current Rating: 10A; Supplier 1: Newark; Supplier Part Number 1: 76AH4992; Supplier 2: Digi-Key; Supplier Part Number 2: 490-9566-1-ND; Supplier 3: Mouser; Supplier Part Number 3: 81-BLE32PN300SN1L
footprint RESISTOR 1210 (3.2mm x 2.5mm)
pins: 1, 2

## BLM15AG102SN1D
designator L?, comment 300mA 1kOhm @ 100MHz
FERRITE BEAD 1 KOHM 0402 1LN; Manufacturer: Murata Electronics; Manufacturer Part Number: BLM15AG102SN1D; Core Material: Metal,Composite; DC Resistance (DCR): 650mOhm; Case/Package: 0402; Min Operating Temperature: -40°C; Max Operating Temperature: 125°C; Current Rating: 300mA; Impedance @ Frequency: 1kOhm @ 100MHz; Supplier 1: RSComponents; Supplier Part Number 1: 7241251
footprint RESISTOR 0402 (1mm x 0.5mm)
pins: 1, 2

## BLM21PG121SH1D
designator L?, comment 3A 0805 120 Ohms @ 100MHz
FERRITE BEAD 120 OHM 0805 1LN; Manufacturer: Murata; Manufacturer Part Number: BLM21PG121SH1D; Core Material: Metal,Composite; DC Resistance (DCR): 30mOhm; Case/Package: 0805; Min Operating Temperature: -55°C; Max Operating Temperature: 125°C; Current Rating: 3A; ComponentLink1URL: http://www.samsungsem.com/kr/support/product-search/inductor/CIGT201208EH1R0MNE.jsp?src-supplier=Digi-Key; ComponentLink1Description: http://www.samsungsem.com/kr/support/product-search/inductor/CIGT201208EH1R0MNE.jsp?src-supplier=Digi-Key; Supplier 1: Digi-Key; Supplier Part Number 1: 490-12626-1-ND; Supplier 2: Arrow Electronics; Supplier Part Number 2: BLM21PG121SH1D
footprint CAPC2012X14N (Chip Capacitor, 2-Leads, Body 2.00x1.25mm, IPC Medium Density)
pins: 1, 2

## BLM31SN500SN1L
designator L?, comment 12A 1206 50Ohm @ 100MHz
FERRITE BEAD 50 OHM 1206 1LN; Manufacturer: Murata; Manufacturer Part Number: BLM31SN500SN1L; DC Resistance (DCR): 1.6mOhm; Impedance @ Frequency: 50 Ohms @ 100MHz; Stock 1: 4430; Min Operating Temperature: -55°C; Max Operating Temperature: 125°C; Current Rating: 12A; Supplier 1: Digi-Key; Supplier Part Number 1: 490-13269-1-ND; Supplier 2: Newark; Supplier Part Number 2: 76AH5093
footprint Resistor 1206 (0.12''x0.06'')
pins: 1, 2

## BSH201,215
designator M?
MOSFET P-CH 60V 0.3A SOT-23; Manufacturer 1: Nexperia USA Inc.; FET Type: MOSFET P-Channel, Metal Oxide; FET Feature: Logic Level Gate; Rds On (Max) @ Id, Vgs: 2.5 Ohm @ 160mA, 10V; Gate Charge (Qg) @ Vgs: 3nC @ 10V; Input Capacitance (Ciss) @ Vds: 70pF @ 48V; Power - Max: 417mW; Current - Continuous Drain (Id) @ 25°C: 300mA (Ta); Vgs(th) (Max) @ Id: 1V @ 1mA; Category: Discrete Semiconductor Products; Drain to Source Voltage (Vdss): 60V; Mounting Type: Surface Mount; Operating Temperature: -55°C ~ 150°C (TJ); Stock 1: 30000; Pricing 1: 10000=0.019, 30000=0.0171, 50000=0.0152, 100000=0.01425, 250000=0.01264 (USD); ComponentLink1URL: http://assets.nexperia.com/documents/data-sheet/BSH201.pdf; ComponentLink1Description: http://assets.nexperia.com/documents/data-sheet/BSH201.pdf; Manufacturer Part Number 1: BSH201,215; Manufacturer Part Number: BSH201,215; Supplier 1: Digi-Key; Supplier Part Number 1: 1727-4926-1-ND
footprint SOT23 TI# SOT-23 3L (SOT23, 3-Leads, Body 2.92x2.40mm, Pitch 0.95mm, IPC Medium Density)
pins: 1 G, 2 S, 3 D

## C0603C101J5GACTU
designator C?, comment 100p, 50V, C0G
CAP CER 100PF 50V C0G/NP0 0603; Manufacturer: KEMET; Manufacturer Part Number: C0603C101J5GACTU; Dielectric Material: Ceramic; Tolerance: 5%; Case/Package: 0603; Min Operating Temperature: -55°C; Max Operating Temperature: 125°C; Capacitance: 100pF; Voltage Rating (DC): 50V; Temperature Coefficient: C0G; Voltage Rating: 50V; Height: 0.8mm; Lead Pitch: 0.7mm; ComponentLink1URL: https://datasheet.ciiva.com/5414/kem-c1003-c0g-smd-5414749.pdf; ComponentLink1Description: https://datasheet.ciiva.com/5414/kem-c1003-c0g-smd-5414749.pdf; Stock 1: 1,196,289; Supplier 1: Digi-Key; Supplier Part Number 1: 399-1061-1-ND
footprint CAPC1608X09N (Chip Capacitor, 2-Leads, Body 1.60x0.80mm, IPC Medium Density)
pins: 1, 2

## C0603C104K5RALTU
designator C?, comment 0.1uF 50V
CAP CER 0.1UF 50V X7R 0603; Manufacturer: KEMET; Manufacturer Part Number: C0603C104K5RALTU; Tolerance: 10%; Dielectric Material: Ceramic; Capacitance: 100nF; Dissipation Factor: 2.5%; Supplier 1: Digi-Key; Stock 1: 0; Pricing 1: 1=0.79, 10=0.584, 100=0.4002, 500=0.31682, 1000=0.2668 (USD); ComponentLink1URL: https://datasheet.ciiva.com/26847/getdatasheetpartid-103253-26847543.pdf; ComponentLink1Description: https://datasheet.ciiva.com/26847/getdatasheetpartid-103253-26847543.pdf; Supplier Part Number 1: 399-6353-6-ND; Case/Package: 0603; Min Operating Temperature: -55°C; Max Operating Temperature: 125°C; Temperature Coefficient: X7R; Voltage Rating: 50V; Height: 0.8mm
footprint CAPC1608X09N (Chip Capacitor, 2-Leads, Body 1.60x0.80mm, IPC Medium Density)
pins: 1, 2

## C0603C122K5RACTU
designator C?, comment 1200pF 50V
CAP CER 1200PF 50V X7R 0603; Manufacturer: KEMET; Manufacturer Part Number: C0603C122K5RACTU; Tolerance: 10%; Category: Ceramic Capacitors; Stock 1: 100,798; Pricing 1: 1=0.10000, 10=0.05000, 100=0.02240, 500=0.01602, 1000=0.01258 (USD); Case/Package: 0603; Min Operating Temperature: -55°C; Max Operating Temperature: 125°C; Temperature Coefficient: X7R; Capacitance: 1200pF; Voltage Rating: 50V; Height: 0.8mm; ComponentLink1URL: https://datasheet.ciiva.com/25741/cl10b102ka8nnnc-25741936.pdf?src-supplier=Digi-Key; ComponentLink1Description: https://datasheet.ciiva.com/25741/cl10b102ka8nnnc-25741936.pdf?src-supplier=Digi-Key; Supplier 1: Digi-Key; Supplier Part Number 1: 399-7851-1-ND
footprint CAPC1608X09N (Chip Capacitor, 2-Leads, Body 1.60x0.80mm, IPC Medium Density)
pins: 1, 2

## C0603C221F5GACTU
designator C?, comment 220p, 50V, C0G
CAP CER 220PF 50V C0G/NP0 0603; Manufacturer: KEMET; Manufacturer Part Number: C0603C221F5GACTU; Dielectric Material: Ceramic; Tolerance: 1%; Supplier 1: Digi-Key; Stock 1: 40000; Pricing 1: 1=0.3, 10=0.207, 100=0.1173, 500=0.0828, 1000=0.07245 (USD); Case/Package: 0603; Min Operating Temperature: -55°C; Max Operating Temperature: 125°C; Capacitance: 220pF; Temperature Coefficient: C0G; Voltage Rating: 50V; Height: 0.8mm; Lead Pitch: 0.7mm; ComponentLink1URL: https://datasheet.ciiva.com/5414/kem-c1003-c0g-smd-5414749.pdf; ComponentLink1Description: https://datasheet.ciiva.com/5414/kem-c1003-c0g-smd-5414749.pdf; Supplier Part Number 1: 399-7876-1-ND
footprint CAPC1608X09N (Chip Capacitor, 2-Leads, Body 1.60x0.80mm, IPC Medium Density)
pins: 1, 2

## C0603C270J5GACTU
designator C?, comment 27pF,50V,C0G
CAP CER 27PF 50V C0G/NP0 0603; Manufacturer: KEMET; Manufacturer Part Number: C0603C270J5GACTU; Tolerance: ±5%; Temperature Coefficient: C0G, NP0; Category: Capacitors; Stock 1: 287639; Pricing 1: 1=0.1, 10=0.052, 100=0.023, 500=0.0164, 1000=0.01289 (USD); Operating Temperature: -55°C ~ 125°C; Features: Low ESL; Applications: General Purpose; Mounting Type: Surface Mount, MLCC; ComponentLink1URL: https://search.kemet.com/component-edge/download/datasheet/C0603C331J5GACTU.pdf; ComponentLink1Description: https://search.kemet.com/component-edge/download/datasheet/C0603C331J5GACTU.pdf; Capactiance: 27pF; Supplier 1: Digi-Key; Supplier Part Number 1: 399-1054-1-ND; Supplier 2: Newark; Supplier Part Number 2: 36X2648; Supplier 3: Mouser; Supplier Part Number 3: 80-C0603C270J5G
footprint CAPC1608X09N (Chip Capacitor, 2-Leads, Body 1.60x0.80mm, IPC Medium Density)
pins: 1, 2

## C0603C331J5GACTU
designator C?, comment 330pF,50V,C0G
CAP CER 330PF 50V C0G/NP0 0603; Manufacturer: KEMET; Manufacturer Part Number: C0603C331J5GACTU; Tolerance: ±5%; Temperature Coefficient: C0G, NP0; Supplier 1: Digi-Key; Category: Capacitors; Stock 1: 121808; Pricing 1: 1=0.1, 10=0.052, 100=0.023, 500=0.0164, 1000=0.01289 (USD); Voltage Rating: 50V; Operating Temperature: -55°C ~ 125°C; Features: Low ESL; Applications: General Purpose; Mounting Type: Surface Mount, MLCC; ComponentLink1URL: https://search.kemet.com/component-edge/download/datasheet/C0603C331J5GACTU.pdf; ComponentLink1Description: https://search.kemet.com/component-edge/download/datasheet/C0603C331J5GACTU.pdf; Supplier Part Number 1: 399-1068-1-ND; Capacitance: 330pF
footprint CAPC1608X09N (Chip Capacitor, 2-Leads, Body 1.60x0.80mm, IPC Medium Density)
pins: 1, 2

## C0603C333K1RECAUTO
designator C?, comment 33nF 100V ESD
CAP CER 0.033UF 100V X7R 0603; Manufacturer: KEMET; Manufacturer Part Number: C0603C333K1RECAUTO; Tolerance: 10%; Stock 1: 6410; Pricing 1: 1=0.25, 10=0.169, 100=0.0857, 500=0.0586, 1000=0.05184 (USD); Case/Package: 0603; Min Operating Temperature: -55°C; Max Operating Temperature: 125°C; Capacitance: 33nF; Voltage Rating: 100V; ComponentLink1URL: https://api.kemet.com/component-edge/download/datasheet/C0603C333K1RECAUTO.pdf?src-supplier=Digi-Key; ComponentLink1Description: https://api.kemet.com/component-edge/download/datasheet/C0603C333K1RECAUTO.pdf?src-supplier=Digi-Key; Supplier 1: Digi-Key; Supplier Part Number 1: 399-14762-1-ND; Temperature Coefficient: X7R
footprint CAPC1608X09N (Chip Capacitor, 2-Leads, Body 1.60x0.80mm, IPC Medium Density)
pins: 1, 2

## C3216X5R1A107M160AC
designator C?, comment 100uF 10V  Supplier Part Number 1: 81-GRM31CR61A107ME5K  Supplier Part Number 2: 445-6007-1-ND
CAP CER 100UF 10V X5R 1206; Manufacturer_Name: Murata Electronics; Manufacturer_Part_Number: GRM31CR61A107ME05K; Tolerance: 20%; Datasheet Link: https://www.digikey.com/en/products/detail/murata-electronics/GRM32EC81C476KE15L/5027615; Height: -; ComponentLink1Description: New link; ComponentLink1URL: *; Capacitance: 100uF; Voltage rating: 10V; Temprature Rating: X5R; Supplier 1: Mouser; Supplier 2: Digi-Key
footprint CAPC3225X280N
pins: 1, 2

## C&K PTS645SM43SMTR92 LFS
designator SW?, comment Tact SPST
SWITCH TACT vertical SMD; Manufacturer: C&K; Manufacturer Part Number: PTS645SM43SMTR92 LFS; Circuit: SPST-NO; Switch Function: Off-Mom; Contact Rating @ Voltage: 0.05A @ 12VDC; Actuator Orientation: Top Actuated; Outline: 6.00mm x 6.00mm; Illumination: Non-Illuminated; Operating Force: 160gf; Mechanical Life: 100,000 Cycles; Category: Switches; Stock 1: 160365; Pricing 1: 1=0.15, 10=0.147, 25=0.1416, 50=0.1366, 100=0.129, 250=0.12144, 500=0.11638 (USD); Mounting Type: Surface Mount; Termination Style: Gull Wing; Features: Blue Actuator; Operating Temperature: -20°C ~ 60°C; ComponentLink1URL: http://www.ckswitches.com/media/1471/pts645.pdf; ComponentLink1Description: http://www.ckswitches.com/media/1471/pts645.pdf; Supplier 1: Digi-Key; Supplier Part Number 1: CKN9112CT-ND; Supplier 2: Newark; Supplier Part Number 2: 95W3587; Supplier 3: Mouser; Supplier Part Number 3: 611-PTS645SM43SMTR92
footprint C&K PTS645SM43SMTR92 LFS (Footprint not found)
pins: 1, 2, 3, 4

## CAT24C04YI-GT3
designator U?
IC EEPROM 4KBIT I2C 8TSSOP; Manufacturer: Onsemi; Supply Voltage: 1.7V ~ 5.5V; Memory Size: 4Kb (512 x 8); Type: EEPROM; Data Interface: I2C; ComponentLink1Description: Link; ComponentLink1URL: https://www.digikey.com/en/products/detail/maxim-integrated/MAX11613EUA-T/2062201; Manufacturer Part Number: CAT24C04YI-GT3; Supplier 1: Digi-Key; Supplier 2: Mouser; Supplier 3: Avnet; Supplier 4: Newark; Supplier Part Number 1: CAT24C04YI-GT3OSCT-ND; Supplier Part Number 2: 698-CAT24C04YI-GT3; Supplier Part Number 3: CAT24C04YI-GT3; Supplier Part Number 4: 08R5405
footprint 8-TSSOP (0.173", 4.40mm Width) (8-TSSOP)
pins: 1 A0, 2 A1, 3 A2, 4 GND, 5 SDA (io), 6 SCL (in), 7 WP (in), 8 VCC (power)

## CC0603FRNPO9BN820
designator C?, comment 82pF 50V
CAP CER 82PF 50V C0G/NPO 0603; Manufacturer: Yageo; Manufacturer Part Number: CC0603FRNPO9BN820; Tolerance: 1%; Temperature Coefficient: C0G; Category: Ceramic Capacitors; Stock 1: 35,490; Case/Package: 0603; Min Operating Temperature: -55°C; Max Operating Temperature: 125°C; Capacitance: 82pF; Voltage Rating: 50V; Supplier 1: Digi-Key; Supplier Part Number 1: 311-3906-1-ND; Load: *
footprint CAPC1608X09N (Chip Capacitor, 2-Leads, Body 1.60x0.80mm, IPC Medium Density)
pins: 1, 2

## CC0603JRNPO9BN200
designator C?, comment 20pF 50V
CAP CER 20PF 50V C0G/NPO 0603; Manufacturer: Yageo; Manufacturer Part Number: CC0603JRNPO9BN200; Tolerance: 5%; Temperature Coefficient: C0G; Supplier 1: Digi-Key; Category: Ceramic Capacitors; Stock 1: 67638; Pricing 1: 1=0.10000, 10=0.05100, 100=0.02260, 500=0.01614, 1000=0.01267 (USD); Case/Package: 0603; Min Operating Temperature: -55°C; Max Operating Temperature: 125°C; Capacitance: 20pF; Voltage Rating (DC): 50V; Voltage Rating: 50V; ComponentLink1URL: https://datasheet.ciiva.com/7978/1132289-7978134.pdf?src-supplier=Element14; ComponentLink1Description: https://datasheet.ciiva.com/7978/1132289-7978134.pdf?src-supplier=Element14; Supplier Part Number 1: 311-1424-1-ND
footprint CAPC1608X09N (Chip Capacitor, 2-Leads, Body 1.60x0.80mm, IPC Medium Density)
pins: 1, 2

## CC0603JRNPO9BN680
designator C?, comment 68pF 50V
CAP CER 68PF 50V C0G/NPO 0603; Manufacturer: Yageo; Manufacturer Part Number: CC0603JRNPO9BN680; Tolerance: +/-5%; Temperature Coefficient: C0G; Category: Ceramic Capacitors; Stock 1: 219,557; Case/Package: 0603; Min Operating Temperature: -55°C; Max Operating Temperature: 125°C; Capacitance: 68pF; Voltage Rating: 50V; Load: *; Supplier 1: Digi-Key; Supplier Part Number 1: 311-1067-1-ND
footprint CAPC1608X09N (Chip Capacitor, 2-Leads, Body 1.60x0.80mm, IPC Medium Density)
pins: 1, 2

## CC0603JRNPO9BN681
designator C?, comment 680pF,50V,C0G
CAP CER 680PF 50V C0G/NPO 0603; Manufacturer: Yageo; Manufacturer Part Number: CC0603JRNPO9BN681; Tolerance: ±5%; Temperature Coefficient: C0G, NP0; Category: Capacitors; Stock 1: 173577; Pricing 1: 1=0.1, 10=0.052, 100=0.023, 500=0.0164, 1000=0.01289 (USD); Voltage Rating: 50V; Operating Temperature: -55°C ~ 125°C; Features: Low ESL; Applications: General Purpose; Mounting Type: Surface Mount, MLCC; ComponentLink1URL: https://search.kemet.com/component-edge/download/datasheet/C0603C331J5GACTU.pdf; ComponentLink1Description: https://search.kemet.com/component-edge/download/datasheet/C0603C331J5GACTU.pdf; Supplier 1: Digi-Key; Supplier Part Number 1: 311-1425-1-ND; Capacitance: 680pF
footprint CAPC1608X09N (Chip Capacitor, 2-Leads, Body 1.60x0.80mm, IPC Medium Density)
pins: 1, 2

## CC0603KRX7R7BB103
designator C?, comment 10nF 16V
CAP CER 10000PF 16V X7R 0603; Manufacturer: Yageo; Manufacturer Part Number: CC0603KRX7R7BB103; Tolerance: ±10%; Category: Capacitors; Stock 1: 155785; Pricing 1: 1=0.1, 10=0.031, 100=0.0136, 500=0.00974, 1000=0.00765 (USD); Voltage Rating: 16V; Temperature Coefficient: X7R; Operating Temperature: -55°C ~ 125°C; Features: -; Applications: General Purpose; Mounting Type: Surface Mount, MLCC; ComponentLink1URL: http://www.yageo.com/documents/recent/UPY-GPHC_X7R_6.3V-to-50V_18.pdf; ComponentLink1Description: http://www.yageo.com/documents/recent/UPY-GPHC_X7R_6.3V-to-50V_18.pdf; Supplier 1: Digi-Key; Supplier Part Number 1: 311-3369-1-ND; Capacitance: 10000pF
footprint CAPC1608X09N (Chip Capacitor, 2-Leads, Body 1.60x0.80mm, IPC Medium Density)
pins: 1, 2

## CC0603KRX7R7BB104
designator C?, comment 0.1uF 16V
CAP CER 0.1UF 16V X7R 0603; Manufacturer: Yageo; Manufacturer Part Number: CC0603KRX7R7BB104; Tolerance: ±10%; Capacitance: 100nF; Supplier 1: Digi-Key; Category: Capacitors; Stock 1: 1733046; Pricing 1: 1=0.1, 10=0.021, 100=0.0095, 500=0.00676, 1000=0.00531 (USD); Temperature Coefficient: X7R; Operating Temperature: -55°C ~ 125°C; Features: -; Applications: General Purpose; Mounting Type: Surface Mount, MLCC; ComponentLink1URL: http://www.yageo.com/documents/recent/UPY-GPHC_X7R_6.3V-to-50V_18.pdf; ComponentLink1Description: http://www.yageo.com/documents/recent/UPY-GPHC_X7R_6.3V-to-50V_18.pdf; Supplier Part Number 1: 311-1088-1-ND
footprint CAPC1608X09N (Chip Capacitor, 2-Leads, Body 1.60x0.80mm, IPC Medium Density)
pins: 1, 2